# Altium footprint library HDR_3POS_JST_90.PcbLib: 1 footprints
Each footprint in its own frame and in the unit in brackets; x right, y up, seen from the top. Pads: shape width x height; smd on the part's side, far side on the other; paste and mask are expansions set on the pad; w line width, h text height; cw(c..) or ccw(c..) is an arc to the next point about the centre after c.
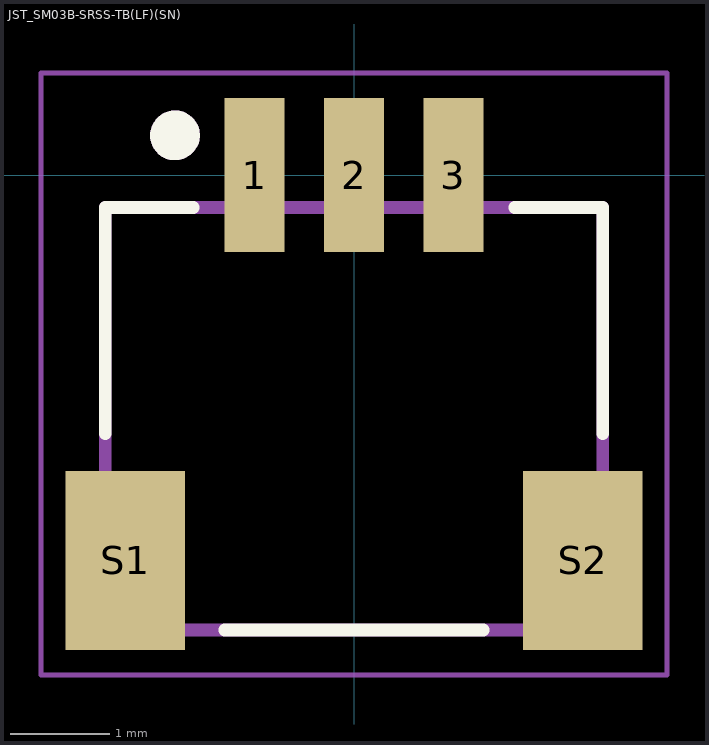
[diagram p0: the footprint, top view; thin cyan lines are the x and y axes]

## JST_SM03B-SRSS-TB(LF)(SN) [mm]
pads (5):
  rect 0.6x1.55 smd: 1(-1,0) 2(0,0) 3(1,0)
  rect 1.2x1.8 smd: S1(-2.3,-3.875) S2(2.3,-3.875)
Top Overlay:
  circle w0.3: c-1.8,0.4 r0.1
  lines w0.127: -2.5,-2.6 -2.5,-0.325 -1.615,-0.325 ; -1.3,-4.575 1.3,-4.575 ; 1.615,-0.325 2.5,-0.325 2.5,-2.6
Mechanical 13:
  circle w0.3: c-1.8,0.4 r0.1
  lines w0.127: -2.5,-4.575 2.5,-4.575 2.5,-0.325 -2.5,-0.325 -2.5,-4.575
Mechanical 15:
  lines w0.05: -3.15,-5.025 3.15,-5.025 3.15,1.025 -3.15,1.025 -3.15,-5.025